# Altium schematic symbol library Soporte pilas boton.SchLib: 1 symbol
Pins are listed as number, name and electrical type; pins without a type are passive.

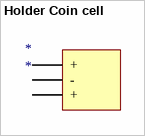
[diagram p0: symbol Holder Coin cell]

## Holder Coin cell
designator *
drawing: https://www.mouser.es/datasheet/2/181/S8201R-1135825.pdf
footprint HARWIN - S8201-46R - HOLDER, COIN CELL, CR/BR1225
footprint HOLDER, COIN CELL, CR1216 (pilas 1diam: 2.5mm)
pins: neg -, pos +, pos +